# Altium schematic symbol library Amin-Library.SCHLIB: 505 symbols (part 4 of 4)
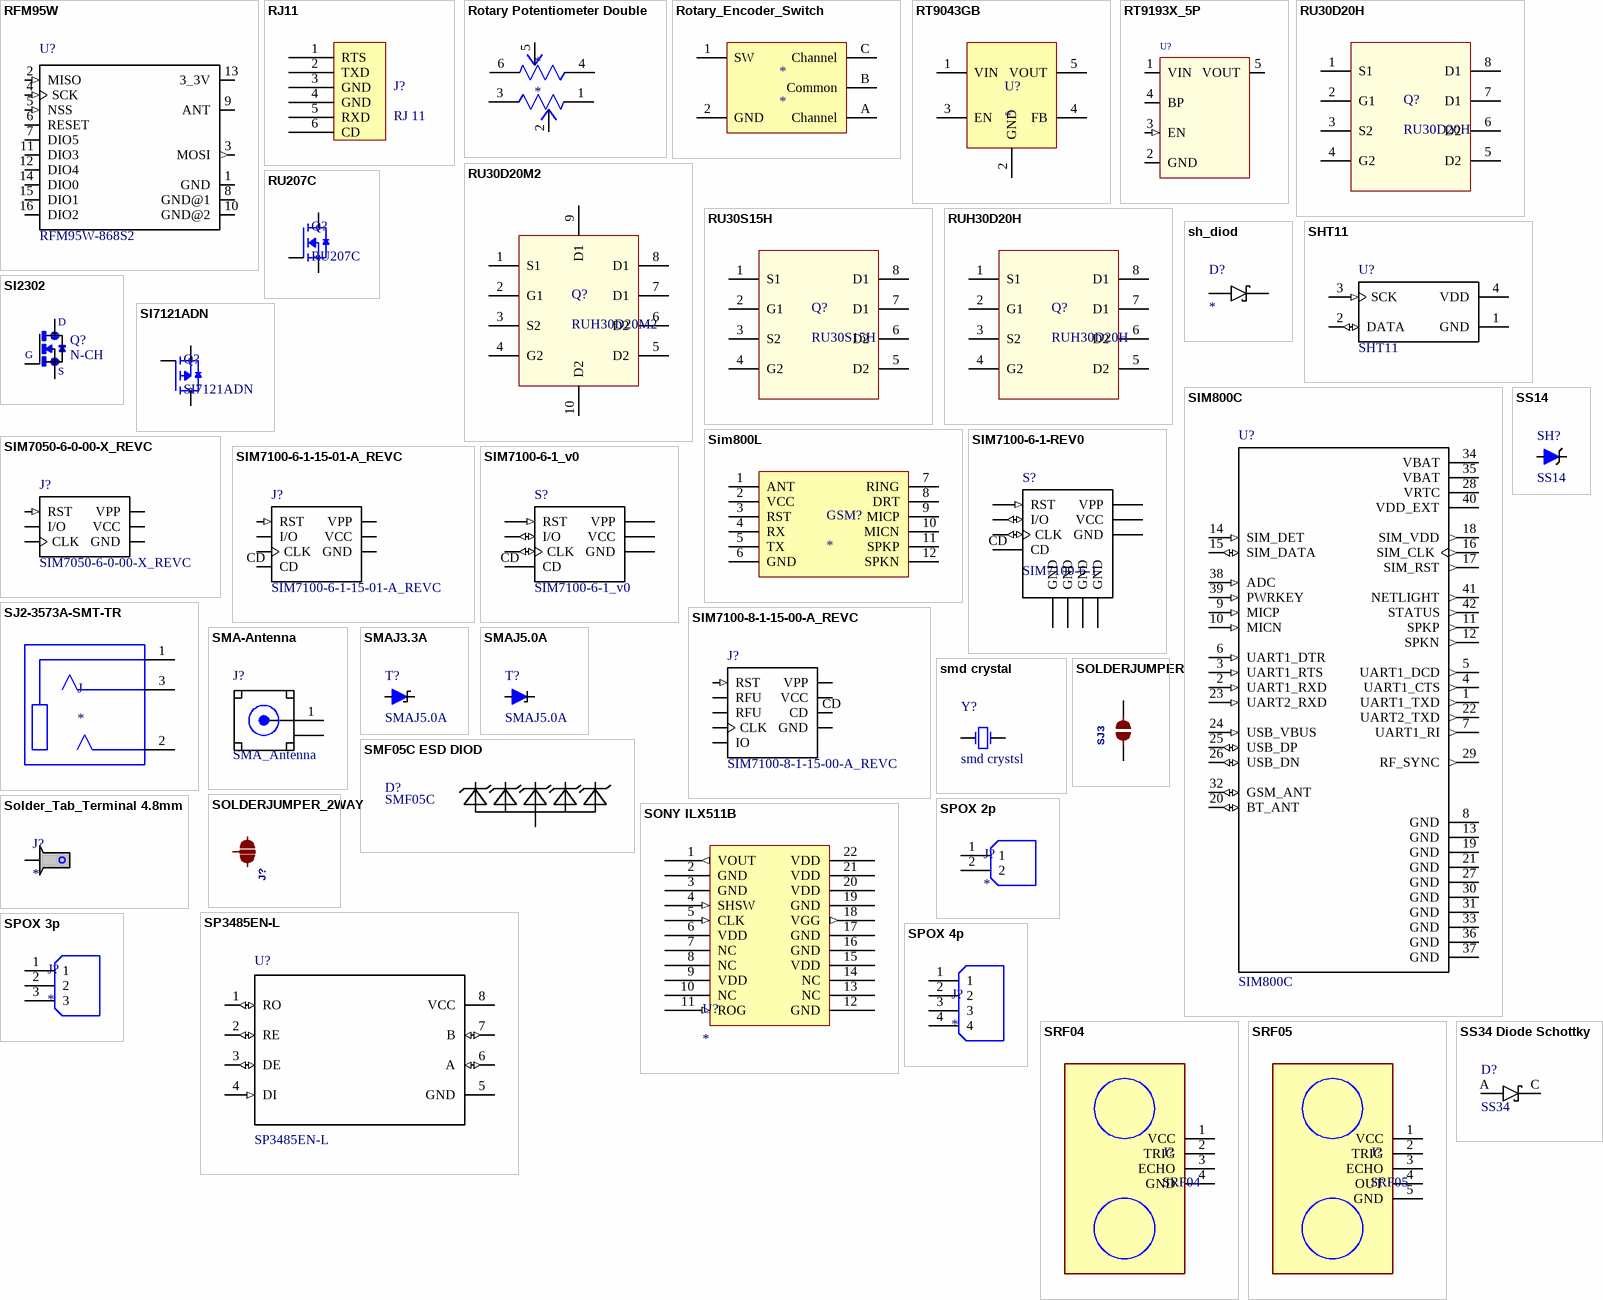
[diagram p21: symbols RFM95W to SS34 Diode Schottky]

## SIM800C
designator U?
Module: GSM/Bluetooth; GPRS; 2G; 1800MHz, 900MHz; 85.6kbps; SMD; MF: Simcom; SnapEDA_Link: https://www.snapeda.com/parts/SIM800C/Simcom/view-part/571323/?ref=snap; Availability: Unavailable; Price: None; MP: SIM800C; Package: None; Value: *
footprint SIM800C
pins: 1 UART1_TXD (out), 2 UART1_RXD (in), 3 UART1_RTS (in), 4 UART1_CTS (out), 5 UART1_DCD (out), 6 UART1_DTR (in), 7 UART1_RI (out), 8 GND (power), 9 MICP (in), 10 MICN (in), 11 SPKP (out), 12 SPKN (out), 13 GND (power), 14 SIM_DET (in), 15 SIM_DATA (io), 16 SIM_CLK (out), 17 SIM_RST (out), 18 SIM_VDD (out), 19 GND (power), 20 BT_ANT (io), 21 GND (power), 22 UART2_TXD (out), 23 UART2_RXD (in), 24 USB_VBUS (in), 25 USB_DP (io), 26 USB_DN (io), 27 GND (power), 28 VRTC (power), 29 RF_SYNC (out), 30 GND (power), 31 GND (power), 32 GSM_ANT (io), 33 GND (power), 34 VBAT (power), 35 VBAT (power), 36 GND (power), 37 GND (power), 38 ADC (in), 39 PWRKEY (in), 40 VDD_EXT (power), 41 NETLIGHT (out), 42 STATUS (out)

## Sim800L
designator GSM?
footprint Sim800L
pins: 1 ANT, 2 VCC, 3 RST, 4 RX, 5 TX, 6 GND, 7 RING, 8 DRT, 9 MICP, 10 MICN, 11 SPKP, 12 SPKN

## SIM7050-6-0-00-X_REVC
designator J?
6 Position Card Connector Micro SIM Surface Mount, Right Angle Gold; MF: Global Connector Technology; MP: SIM7050-6-0-00-A; Package: None; Price: None; Availability: Unavailable; SnapEDA_Link: https://www.snapeda.com/parts/SIM7050-6-0-00-A/Global%20Connector%20Technology/view-part/270345/?ref=snap; Value: *
footprint *GCT_SIM7050-6-0-00-X_REVC_SIM7050-6-0-00-X_REVC(Primary)
pins: C1 VCC (power), C2 RST (in), C3 CLK (io), C5 GND (power), C6 VPP (power), C7 I/O (io)

## SIM7100-6-1-15-01-A_REVC
designator J?
6 Position 2.54 mm Pitch Push-Push 1.5 mm Profile Micro SIM Card Connector, locating peg; MF: Global Connector Technology; Price: None; Package: Package Analog Devices; SnapEDA_Link: https://www.snapeda.com/parts/SIM7100-6-1-15-01-A/Global%20Connector%20Technology/view-part/4218389/?ref=snap; Availability: Unavailable; MP: SIM7100-6-1-15-01-A; Value: *
footprint *GCT_SIM7100-6-1-15-01-A_REVC_SIM7100-6-1-15-01-A_REVC(Primary)
pins: C1 VCC (power), C2 RST (in), C3 CLK (io), C5 GND (power), C6 VPP (power), C7 I/O (io), CD

## SIM7100-6-1-REV0
designator S?, comment SIM7100-6-1
6 Position 2.54 mm Pitch Push-Push 1.5 mm Profile Micro SIM Card Connector, locating peg; MF: Global Connector Technology; MP: SIM7100-6-1-15-01-A; Price: None; Package: Package Analog Devices; SnapEDA_Link: https://www.snapeda.com/parts/SIM7100-6-1-15-01-A/Global%20Connector%20Technology/view-part/4218389/?ref=snap; Availability: Unavailable; Value: *
footprint SIM7100-6-REV0
pins: 1 GND (power), 2 GND (power), 3 GND (power), 4 GND, C1 VCC (power), C2 RST (in), C3 CLK (io), C5 GND (power), C6 VPP (power), C7 I/O (io), CD

## SIM7100-6-1_v0
designator S?
6 Position 2.54 mm Pitch Push-Push 1.5 mm Profile Micro SIM Card Connector, locating peg; MF: Global Connector Technology; MP: SIM7100-6-1-15-01-A; Price: None; Package: Package Analog Devices; SnapEDA_Link: https://www.snapeda.com/parts/SIM7100-6-1-15-01-A/Global%20Connector%20Technology/view-part/4218389/?ref=snap; Availability: Unavailable; Value: *
footprint SIM7100-6-V0
pins: 1 VCC (power), 2 RST (in), 3 CLK (io), 5 GND (power), 6 VPP (power), 7 I/O (io), CD

## SIM7100-8-1-15-00-A_REVC
designator J?
9 _8 + 1_ Position Card Connector Micro SIM Surface Mount, Right Angle Gold; MF: Global Connector Technology; Package: None; Price: None; Availability: Unavailable; MP: SIM7100-8-1-15-00-A; SnapEDA_Link: https://www.snapeda.com/parts/SIM7100-8-1-15-00-A/Global%20Connector%20Technology/view-part/779291/?ref=snap; Value: *
footprint *GCT_SIM7100-8-1-15-00-A_REVC_SIM7100-8-1-15-00-A_REVC(Primary)
pins: C1 VCC (power), C2 RST (in), C3 CLK (io), C4 RFU (io), C5 GND (power), C6 VPP (power), C7 IO (io), C8 RFU (io), CD

## SJ2-3573A-SMT-TR
designator J
3.5 mm, Stereo, Right Angle, Surface Mount (SMT), Audio Jack Connector; MP: SJ2-3573A-SMT-TR; MF: CUI Devices; Price: None; Arrow_Electronics-Purchase-URL: https://snapeda.com/shop?store=Arrow+Electronics&id=911456; Value: *; Package: None; Mouser-Purchase-URL: https://snapeda.com/shop?store=Mouser&id=911456; SnapEDA_Link: https://www.snapeda.com/parts/SJ2-3573A-SMT-TR/CUI%20Devices/view-part/911456/?ref=snap; Availability: Warning; CUI_purchase_URL: https://www.cuidevices.com/product/interconnect/connectors/audio-connectors/jacks/sj2-357x-smt-series?utm_source=snapeda.com&utm_medium=referral&utm_campaign=snapedaBOM
footprint CUI_SJ2-3573A-SMT-TR
pins: 1 SLEEVE, 2 TIP, 3 RING1

## SMA-Antenna
designator J?, comment SMA_Antenna
SMA Connector Jack, Female Socket 50Ohm Through Hole, Right Angle Solder; MP: SMA-J-P-H-RA-TH1; MF: Samtec; Package: None; Price: None; Availability: Unavailable; SnapEDA_Link: https://www.snapeda.com/parts/SMA-J-P-H-RA-TH1/Samtec%20Inc./view-part/134498/?ref=snap; Value: *
footprint SMA_Antenna
pins: 1 SIGNAL, 2 GND (power), 3 GND (power), 4 GND (power), 5 GND (power)

## SMAJ3.3A
designator T?, comment SMAJ5.0A
one side TVS Diode; MP: EDZV12B; MF: ROHM Semiconductor; Price: None; Package: None; SnapEDA_Link: https://www.snapeda.com/parts/EDZV12B/EMI/view-part/4479349/?ref=snap; Availability: Unavailable; Value: *
footprint SMAJ3.3A
pins: A, C

## SMAJ5.0A
designator T?
one side TVS Diode; MP: EDZV12B; MF: ROHM Semiconductor; Price: None; Package: None; SnapEDA_Link: https://www.snapeda.com/parts/EDZV12B/EMI/view-part/4479349/?ref=snap; Availability: Unavailable; Value: *
footprint SMAJ5.0A
pins: A, C

## smd crystal
designator Y?, comment smd crystsl
MF: ECS International; MP: ECS-320-18-5PXEN-TR; Availability: Unavailable; Price: None; Package: None; SnapEDA_Link: https://www.snapeda.com/parts/ECS-320-18-5PXEN-TR/ECS%20International/view-part/?ref=snap; Value: *
footprint SMD_Crystal
pins: 1 OSC1, 2 OSC2

## SMF05C ESD DIOD
designator D?, comment SMF05C
12.5V Clamp 8A _8/20Âµs_ Ipp Tvs Diode Surface Mount SC-88/SC70-6/SOT-363; MF: ON Semiconductor; Package: SOT-363 ON Semiconductor; Price: None; Availability: Unavailable; MP: SMF05C; SnapEDA_Link: https://www.snapeda.com/parts/SMF05C/ON%20Semiconductor/view-part/2782704/?ref=snap; Value: *
footprint SMF05
pins: 1 C1, 2 A, 3 C2, 4 C3, 5 C4, 6 C5

## Solder_Tab_Terminal 4.8mm
designator J?
Solder_Tab_Terminal 4.8mm; MP: 22035145; Availability: Unavailable; Value: *; Price: None; Package: None
footprint Solder Tab Terminal 4.8mm*0.5mm (2Pin)
pins: 1

## SOLDERJUMPER
designator SJ3  (value not drawn)
SMD Solder JUMPERSolder the two pads together to create a connection, or remove the solder to break it.REFLOW - Use this footprint for solder paste and reflow ovens.WAVE - Use this footprint for hand-soldering (larger pads). CLOSED - Has a trace between the two pads to ensure it is closed by default.  The trace needs to be cut to disable the jumper, and can be closed again by creating a solder bridge between the two pads.; GateName_1: 1; BOM: EXCLUDE; SymbolName_1: SOLDERJUMPER; LibraryName: microbuilder; DeviceSetName: SOLDERJUMPER
footprint SOLDERJUMPER_ARROW_NOPASTE
pins: 1, 2

## SOLDERJUMPER_2WAY
designator J?
2-Way Solder Jumper; GateName_1: G$1; SymbolName_1: SOLDERJUMPER_2WAY; LibraryName: microbuilder; DeviceSetName: SOLDERJUMPER_2WAY
footprint SOLDERJUMPER_2WAY_OPEN_NOPASTE
pins: 1, 2, 3

## SONY ILX511B
designator U?
2048-pixel CCD Linear Sensor
footprint SONY ILX511B (2048-pixel CCD Linear Sensor)
pins: 1 VOUT (out), 2 GND (power), 3 GND, 4 SHSW (in), 5 CLK (in), 6 VDD, 7 NC, 8 NC, 9 VDD, 10 NC, 11 ROG (in), 12 GND (power), 13 NC, 14 NC, 15 VDD, 16 GND, 17 GND, 18 VGG (out), 19 GND (power), 20 VDD, 21 VDD, 22 VDD (power)

## SP3485EN-L
designator U?
SP3485 Series 10 Mbps 3.3 V Low Power Half Duplex RS-485 Transceiver - SOIC-8N; MF: Exar Corporation; SnapEDA_Link: https://www.snapeda.com/parts/SP3485EN-L/Exar%20Corporation/view-part/?ref=snap; MP: SP3485EN-L; Price: 1.72 USD; Availability: Warning; Package: SOIC-8 Exar; Value: *
footprint SP3485
pins: 1 RO (io), 2 RE (io), 3 DE (io), 4 DI (in), 5 GND (power), 6 A (io), 7 B (io), 8 VCC (power)

## SPOX 2p
designator J?
2.50mm Pitch, Mini-SPOX PCB Header, Single Row, Vertical, Through Hole, Tin Plating,2p Circuits, Bag, 3.50mm PC Tail Length; MP: 22035145; Availability: Unavailable; Value: *; Price: None; Package: None
footprint SPOX 2P
pins: 1, 2

## SPOX 3p
designator J?
2.50mm Pitch, Mini-SPOX PCB Header, Single Row, Vertical, Through Hole, Tin Plating,3 Circuits, Bag, 3.50mm PC Tail Length; MP: 22035145; Availability: Unavailable; Value: *; Price: None; Package: None
footprint SPOX 3P
pins: 1, 2, 3

## SPOX 4p
designator J?
2.50mm Pitch, Mini-SPOX PCB Header, Single Row, Vertical, Through Hole, Tin Plating,4 Circuits, Bag, 3.50mm PC Tail Length; MP: 22035145; Availability: Unavailable; Value: *; Price: None; Package: None
footprint SPOX 4P
pins: 1, 2, 3, 4

## SRF04
designator J?
Ultrasonic Sensor SRF04; MP: B4B-XH-A_LF__SN_; MF: JST Sales; Price: None; Package: None; Value: *; Availability: Unavailable; SnapEDA_Link: https://www.snapeda.com/parts/B4B-XH-A%28LF%29%28SN%29/JST%20Sales%20America%20Inc./view-part/447494/?ref=snap
footprint SRF04
pins: 1 VCC, 2 TRIG, 3 ECHO, 4 GND

## SRF05
designator J?
Ultrasonic Sensor SRF05; MP: B4B-XH-A_LF__SN_; MF: JST Sales; Price: None; Package: None; Value: *; Availability: Unavailable; SnapEDA_Link: https://www.snapeda.com/parts/B4B-XH-A%28LF%29%28SN%29/JST%20Sales%20America%20Inc./view-part/447494/?ref=snap
footprint SRF05
pins: 1 VCC, 2 TRIG, 3 ECHO, 4 OUT, 5 GND

## SS14
designator SH?
SHotkey Diode; MP: EDZV12B; MF: ROHM Semiconductor; Price: None; Package: None; SnapEDA_Link: https://www.snapeda.com/parts/EDZV12B/EMI/view-part/4479349/?ref=snap; Availability: Unavailable; Value: *
footprint SS14
pins: A, C

## SS34 Diode Schottky
designator D?, comment SS34
Diode Schottky 40V 3A Surface Mount SMC _DO-214AB_; MF: ON Semiconductor; Package: None; Price: None; Availability: Unavailable; MP: SS34; SnapEDA_Link: https://www.snapeda.com/parts/SS34/ON%20Semiconductor/view-part/4479478/?ref=snap; Value: *
footprint *DIOM7959X265N_SS34(Primary)
pins: A, C K

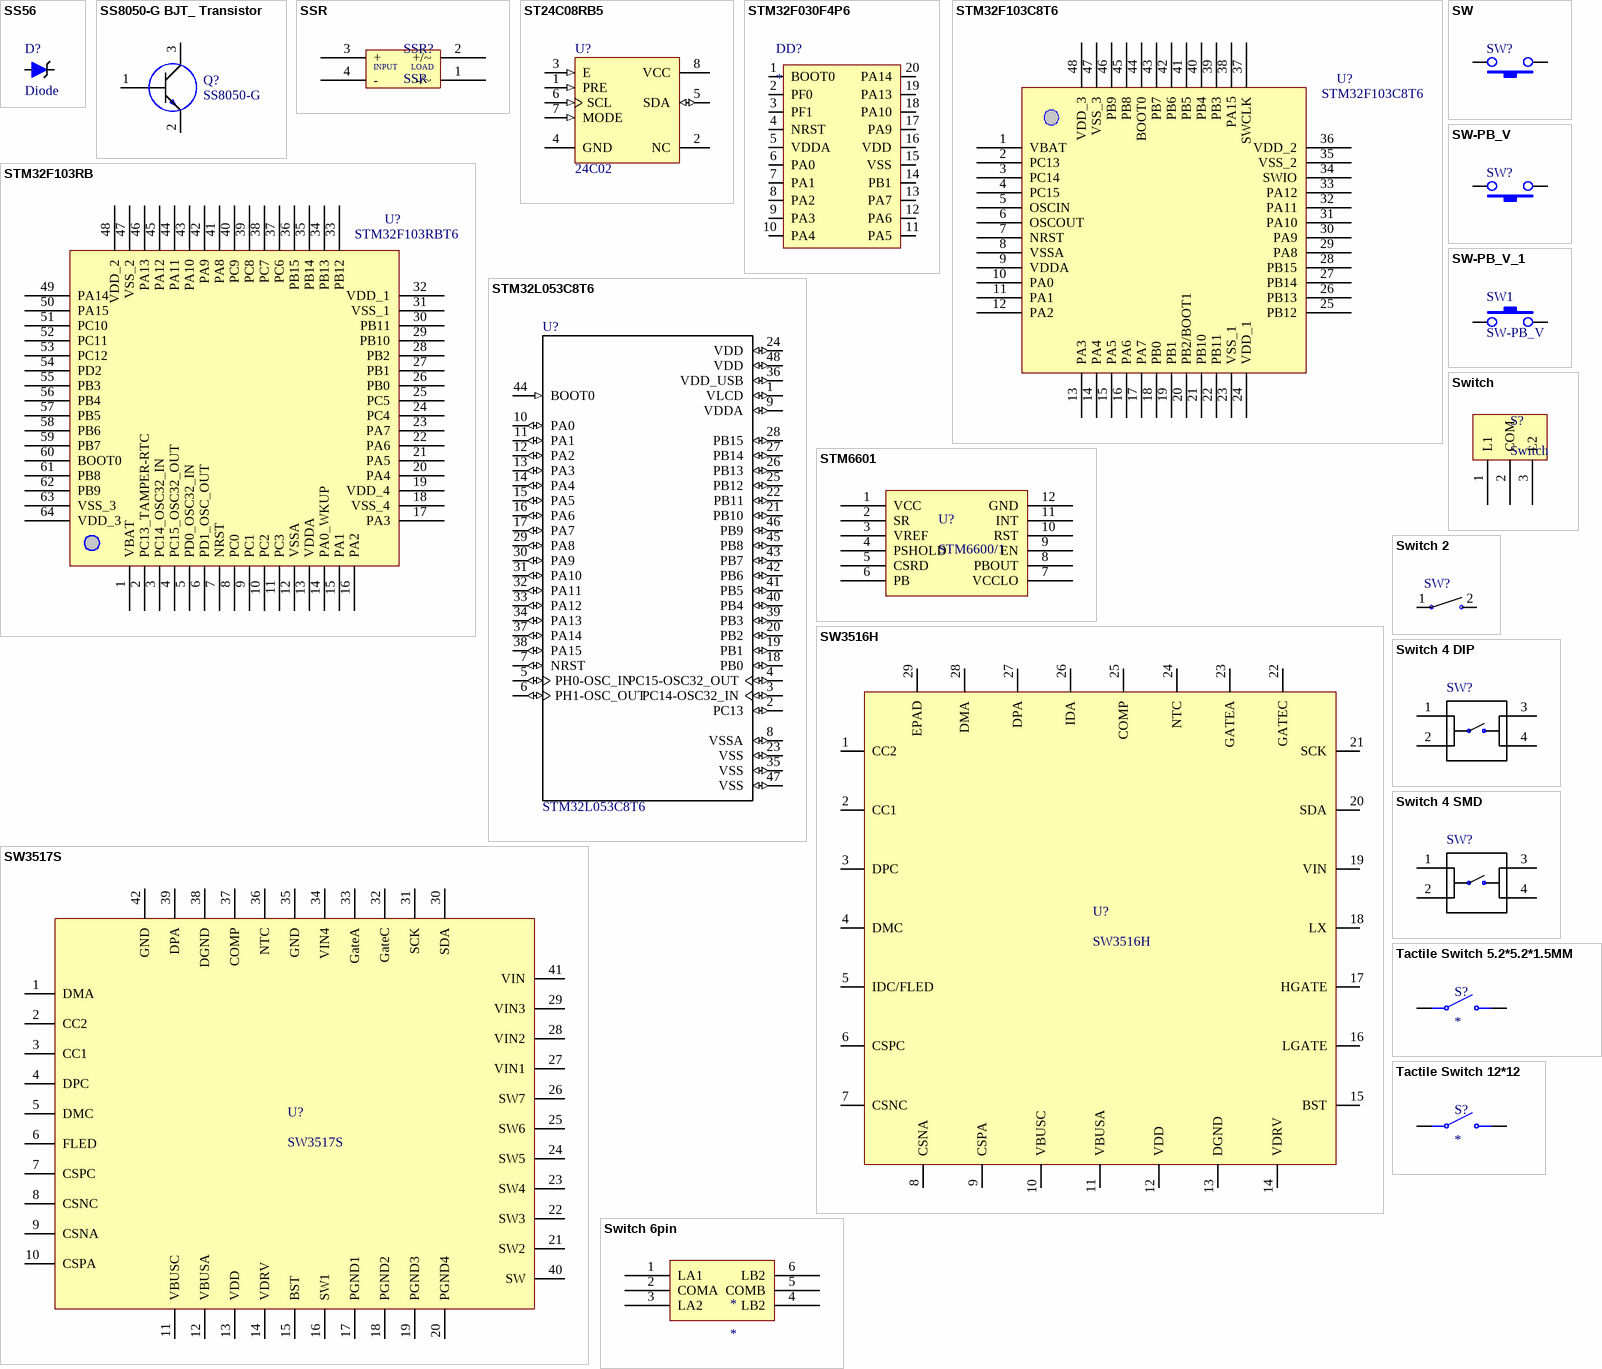
[diagram p15: symbols SS56 to Tactile Switch 12*12]

## SS56
designator D?, comment Diode
SMB Package; MP: EDZV12B; MF: ROHM Semiconductor; Price: None; Package: None; SnapEDA_Link: https://www.snapeda.com/parts/EDZV12B/EMI/view-part/4479349/?ref=snap; Availability: Unavailable; Value: *
footprint SS56 (SMB)
pins: 1 A, 2 C

## SS8050-G BJT_ Transistor
designator Q?, comment SS8050-G
Bipolar _BJT_ Transistor NPN 25V 1.5A 100MHz 300mW Surface Mount SOT-23; MF: Comchip Technology; SnapEDA_Link: https://www.snapeda.com/parts/SS8050-G/Comchip%20Technology/view-part/809142/?ref=snap; Price: None; MP: SS8050-G; Package: TO-236 Comchip; Availability: Unavailable; Value: *
footprint BJT SS805
pins: 1 B (io), 2 E (io), 3 C (io)

## SSR
designator SSR?
HHG1D-1
footprint SSR (HHG1D-1)
pins: 1 -/~, 2 +/~, 3 +, 4 -
text: INPUT; LOAD

## ST24C08RB5
designator U?, comment 24C02
Serial 8K (1K x 8) EEPROM; Published: 24-Aug-2001; LatestRevisionDate: 06-Jun-2005; LatestRevisionNote: Stylized 3D Model Added.; DatasheetVersion: Jul-1996; PackageVersion: Jun-1998; PackageReference: PSDIP8A; Publisher: Altium Limited; PackageDescription: DIP; 8 Leads; Row Spacing 7.62 mm; Pitch 2.54 mm; ComponentLink1Description: Manufacturer Link; ComponentLink1URL: http://www.st.com/
footprint PSDIP8A (DIP; 8 Leads; Row Spacing 7.62 mm; Pitch 2.54 mm)
3D model PSDIP8A (DIP; 8 Leads; Row Spacing 7.62 mm; Pitch 2.54 mm)
pins: 1 PRE (in), 2 NC, 3 E (in), 4 GND (power), 5 SDA (io), 6 SCL (in), 7 MODE (in), 8 VCC (power)

## STM32F030F4P6
designator DD?
footprint STM32F030F4P6
pins: 1 BOOT0, 2 PF0, 3 PF1, 4 NRST, 5 VDDA, 6 PA0, 7 PA1, 8 PA2, 9 PA3, 10 PA4, 11 PA5, 12 PA6, 13 PA7, 14 PB1, 15 VSS, 16 VDD, 17 PA9, 18 PA10, 19 PA13, 20 PA14

## STM32F103C8T6
designator U?
ARM Microcontroller 70Hz max
footprint STM32F103C8
pins: 1 VBAT, 2 PC13, 3 PC14, 4 PC15, 5 OSCIN, 6 OSCOUT, 7 NRST, 8 VSSA, 9 VDDA, 10 PA0, 11 PA1, 12 PA2, 13 PA3, 14 PA4, 15 PA5, 16 PA6, 17 PA7, 18 PB0, 19 PB1, 20 PB2/BOOT1, 21 PB10, 22 PB11, 23 VSS_1, 24 VDD_1, 25 PB12, 26 PB13, 27 PB14, 28 PB15, 29 PA8, 30 PA9, 31 PA10, 32 PA11, 33 PA12, 34 SWIO, 35 VSS_2, 36 VDD_2, 37 SWCLK, 38 PA15, 39 PB3, 40 PB4, 41 PB5, 42 PB6, 43 PB7, 44 BOOT0, 45 PB8, 46 PB9, 47 VSS_3, 48 VDD_3

## STM32F103RB
designator U?, comment STM32F103RBT6
footprint LQFP64
pins: 1 VBAT, 2 PC13_TAMPER-RTC, 3 PC14_OSC32_IN, 4 PC15_OSC32_OUT, 5 PD0_OSC32_IN, 6 PD1_OSC_OUT, 7 NRST, 8 PC0, 9 PC1, 10 PC2, 11 PC3, 12 VSSA, 13 VDDA, 14 PA0_WKUP, 15 PA1, 16 PA2, 17 PA3, 18 VSS_4, 19 VDD_4, 20 PA4, 21 PA5, 22 PA6, 23 PA7, 24 PC4, 25 PC5, 26 PB0, 27 PB1, 28 PB2, 29 PB10, 30 PB11, 31 VSS_1, 32 VDD_1, 33 PB12, 34 PB13, 35 PB14, 36 PB15, 37 PC6, 38 PC7, 39 PC8, 40 PC9, 41 PA8, 42 PA9, 43 PA10, 44 PA11, 45 PA12, 46 PA13, 47 VSS_2, 48 VDD_2, 49 PA14, 50 PA15, 51 PC10, 52 PC11, 53 PC12, 54 PD2, 55 PB3, 56 PB4, 57 PB5, 58 PB6, 59 PB7, 60 BOOT0, 61 PB8, 62 PB9, 63 VSS_3, 64 VDD_3

## STM32L053C8T6
designator U?
Ultra-low-power ARM Cortex-M0+ MCU with 64 Kbytes Flash, 32 MHz CPU, USB, LCD; MF: STMicroelectronics; Package: LQFP-48 STMicroelectronics; Digi-Key_Purchase_URL: https://www.digikey.com/product-detail/en/stmicroelectronics/STM32L053C8T6/497-14906-ND/4935255?utm_source=snapeda&utm_medium=aggregator&utm_campaign=symbol; Digi-Key_Part_Number: 497-14906-ND; SnapEDA_Link: https://www.snapeda.com/parts/STM32L053C8T6/STMicroelectronics/view-part/?ref=snap; MP: STM32L053C8T6; Value: *
footprint STM32L053C8T6
pins: 1 VLCD (io), 2 PC13 (io), 3 PC14-OSC32_IN (io), 4 PC15-OSC32_OUT (io), 5 PH0-OSC_IN (io), 6 PH1-OSC_OUT (io), 7 NRST (io), 8 VSSA (io), 9 VDDA (io), 10 PA0 (io), 11 PA1 (io), 12 PA2 (io), 13 PA3 (io), 14 PA4 (io), 15 PA5 (io), 16 PA6 (io), 17 PA7 (io), 18 PB0 (io), 19 PB1 (io), 20 PB2 (io), 21 PB10 (io), 22 PB11 (io), 23 VSS (io), 24 VDD (io), 25 PB12 (io), 26 PB13 (io), 27 PB14 (io), 28 PB15 (io), 29 PA8 (io), 30 PA9 (io), 31 PA10 (io), 32 PA11 (io), 33 PA12 (io), 34 PA13 (io), 35 VSS (io), 36 VDD_USB (io), 37 PA14 (io), 38 PA15 (io), 39 PB3 (io), 40 PB4 (io), 41 PB5 (io), 42 PB6 (io), 43 PB7 (io), 44 BOOT0 (in), 45 PB8 (io), 46 PB9 (io), 47 VSS (io), 48 VDD (io)

## STM6601
designator U?, comment STM6600/1
Smart push-button on/off controller with Smart Reset™ and  power-on lockout
footprint TDFN12
pins: 1 VCC, 2 SR, 3 VREF, 4 PSHOLD, 5 CSRD, 6 PB, 7 VCCLO, 8 PBOUT, 9 EN, 10 RST, 11 INT, 12 GND

## SW
designator SW?
SWITCH - 8mm
footprint SW-PB - 8mm
pins: 1, 2

## SW3516H
designator U?
footprint SW3516H-QFN28-4*4mm
pins: 1 CC2, 2 CC1, 3 DPC, 4 DMC, 5 IDC/FLED, 6 CSPC, 7 CSNC, 8 CSNA, 9 CSPA, 10 VBUSC, 11 VBUSA, 12 VDD, 13 DGND, 14 VDRV, 15 BST, 16 LGATE, 17 HGATE, 18 LX, 19 VIN, 20 SDA, 21 SCK, 22 GATEC, 23 GATEA, 24 NTC, 25 COMP, 26 IDA, 27 DPA, 28 DMA, 29 EPAD

## SW3517S
designator U?
footprint SW3517S-QFN40-50*50
pins: 1 DMA, 2 CC2, 3 CC1, 4 DPC, 5 DMC, 6 FLED, 7 CSPC, 8 CSNC, 9 CSNA, 10 CSPA, 11 VBUSC, 12 VBUSA, 13 VDD, 14 VDRV, 15 BST, 16 SW1, 17 PGND1, 18 PGND2, 19 PGND3, 20 PGND4, 21 SW2, 22 SW3, 23 SW4, 24 SW5, 25 SW6, 26 SW7, 27 VIN1, 28 VIN2, 29 VIN3, 30 SDA, 31 SCK, 32 GateC, 33 GateA, 34 VIN4, 35 GND, 36 NTC, 37 COMP, 38 DGND, 39 DPA, 40 SW, 41 VIN, 42 GND

## SW-PB_V
designator SW?
SWITCH
footprint Switch 2
pins: 1, 2

## SW-PB_V_1
designator SW1, comment SW-PB_V
SWITCH
footprint Switch 2
pins: 1, 2

## Switch
designator S?
footprint SW-PCB (1P2T 90 Angle Horizontal Slide)
pins: 1 L1, 2 COM, 3 L2

## Switch 2
designator SW?, comment 1437566-3  (value not drawn)
Tactile Switch SPST-NO Top Actuated Surface Mount; Contact_Current_Rating: 50 mA; MF: TE Connectivity; Configuration_Pole-Throw: Single Pole - Single Throw; TE_purchase_URL: https://www.te.com/usa-en/product-1437566-3.html?te_bu=Cor&te_type=disp&te_campaign=seda_glo_cor-seda-global-disp-prtnr-fy19-seda-model-bom-cta_sma-317_1&elqCampaignId=32493; SnapEDA_Link: https://www.snapeda.com/parts/1437566-3/TE%20Connectivity%20ALCOSWITCH%20Switches/view-part/348131/?ref=snap; Availability: Unavailable; MP: 1437566-3; Price: None; Package: None; Value: *
footprint Switch 2
pins: 1, 2

## Switch 4 DIP
designator SW?, comment 1825910-6  (value not drawn)
Switch Push Button OFF _ON_ SPST Round Button 0.05A 24VDC Momentary Contact PC Pins Thru-Hole; Contact_Current_Rating: 50 mA; MF: TE Connectivity; Configuration_Pole-Throw: Single Pole - Single Throw; TE_purchase_URL: https://www.te.com/usa-en/product-1825910-6.html?te_bu=Cor&te_type=disp&te_campaign=seda_glo_cor-seda-global-disp-prtnr-fy19-seda-model-bom-cta_sma-317_1&elqCampaignId=32493; SnapEDA_Link: https://www.snapeda.com/parts/1825910-6/TE%20Connectivity%20ALCOSWITCH%20Switches/view-part/424522/?ref=snap; Availability: Unavailable; EU_RoHS_Compliance: Compliant; MP: 1825910-6; Price: None; Package: None; Value: *
footprint Switch 4 dip
pins: 1, 2, 3, 4

## Switch 4 SMD
designator SW?, comment 1825910-6  (value not drawn)
Switch Push Button OFF _ON_ SPST Round Button 0.05A 24VDC Momentary Contact PC Pins Thru-Hole; Contact_Current_Rating: 50 mA; MF: TE Connectivity; Configuration_Pole-Throw: Single Pole - Single Throw; TE_purchase_URL: https://www.te.com/usa-en/product-1825910-6.html?te_bu=Cor&te_type=disp&te_campaign=seda_glo_cor-seda-global-disp-prtnr-fy19-seda-model-bom-cta_sma-317_1&elqCampaignId=32493; SnapEDA_Link: https://www.snapeda.com/parts/1825910-6/TE%20Connectivity%20ALCOSWITCH%20Switches/view-part/424522/?ref=snap; Availability: Unavailable; EU_RoHS_Compliance: Compliant; MP: 1825910-6; Price: None; Package: None; Value: *
footprint Switch 4 smd
pins: 1, 2, 3, 4

## Switch 6pin
designator *
footprint SW-PCB 6PIN (2P2T 6PIN)
pins: 1 LA1, 2 COMA, 3 LA2, 4 LB2, 5 COMB, 6 LB2

## Tactile Switch 5.2*5.2*1.5MM
designator S?
Tactile Switch SPST-NO Top Actuated Surface Mount; MP: 430172043816; MF: Wurth Electronics; Package: None; Availability: Unavailable; SnapEDA_Link: https://www.snapeda.com/parts/430172043816/Wurth%20Electronics%20Inc./view-part/3622048/?ref=snap; Price: None; Value: *
footprint Tact Switch 5.2*5.2*1.5 (5.2*5.2*0.9mm)
pins: 1 1_2, 2 1_2, 3 3_4, 4 3_4

## Tactile Switch 12*12
designator S?
Tactile Switch SPST-NO Top Actuated Surface Mount; MP: 430172043816; MF: Wurth Electronics; Package: None; Availability: Unavailable; SnapEDA_Link: https://www.snapeda.com/parts/430172043816/Wurth%20Electronics%20Inc./view-part/3622048/?ref=snap; Price: None; Value: *
footprint Tactile Switch 12*12
pins: 1 1_2, 2 1_2, 3 3_4, 4 3_4

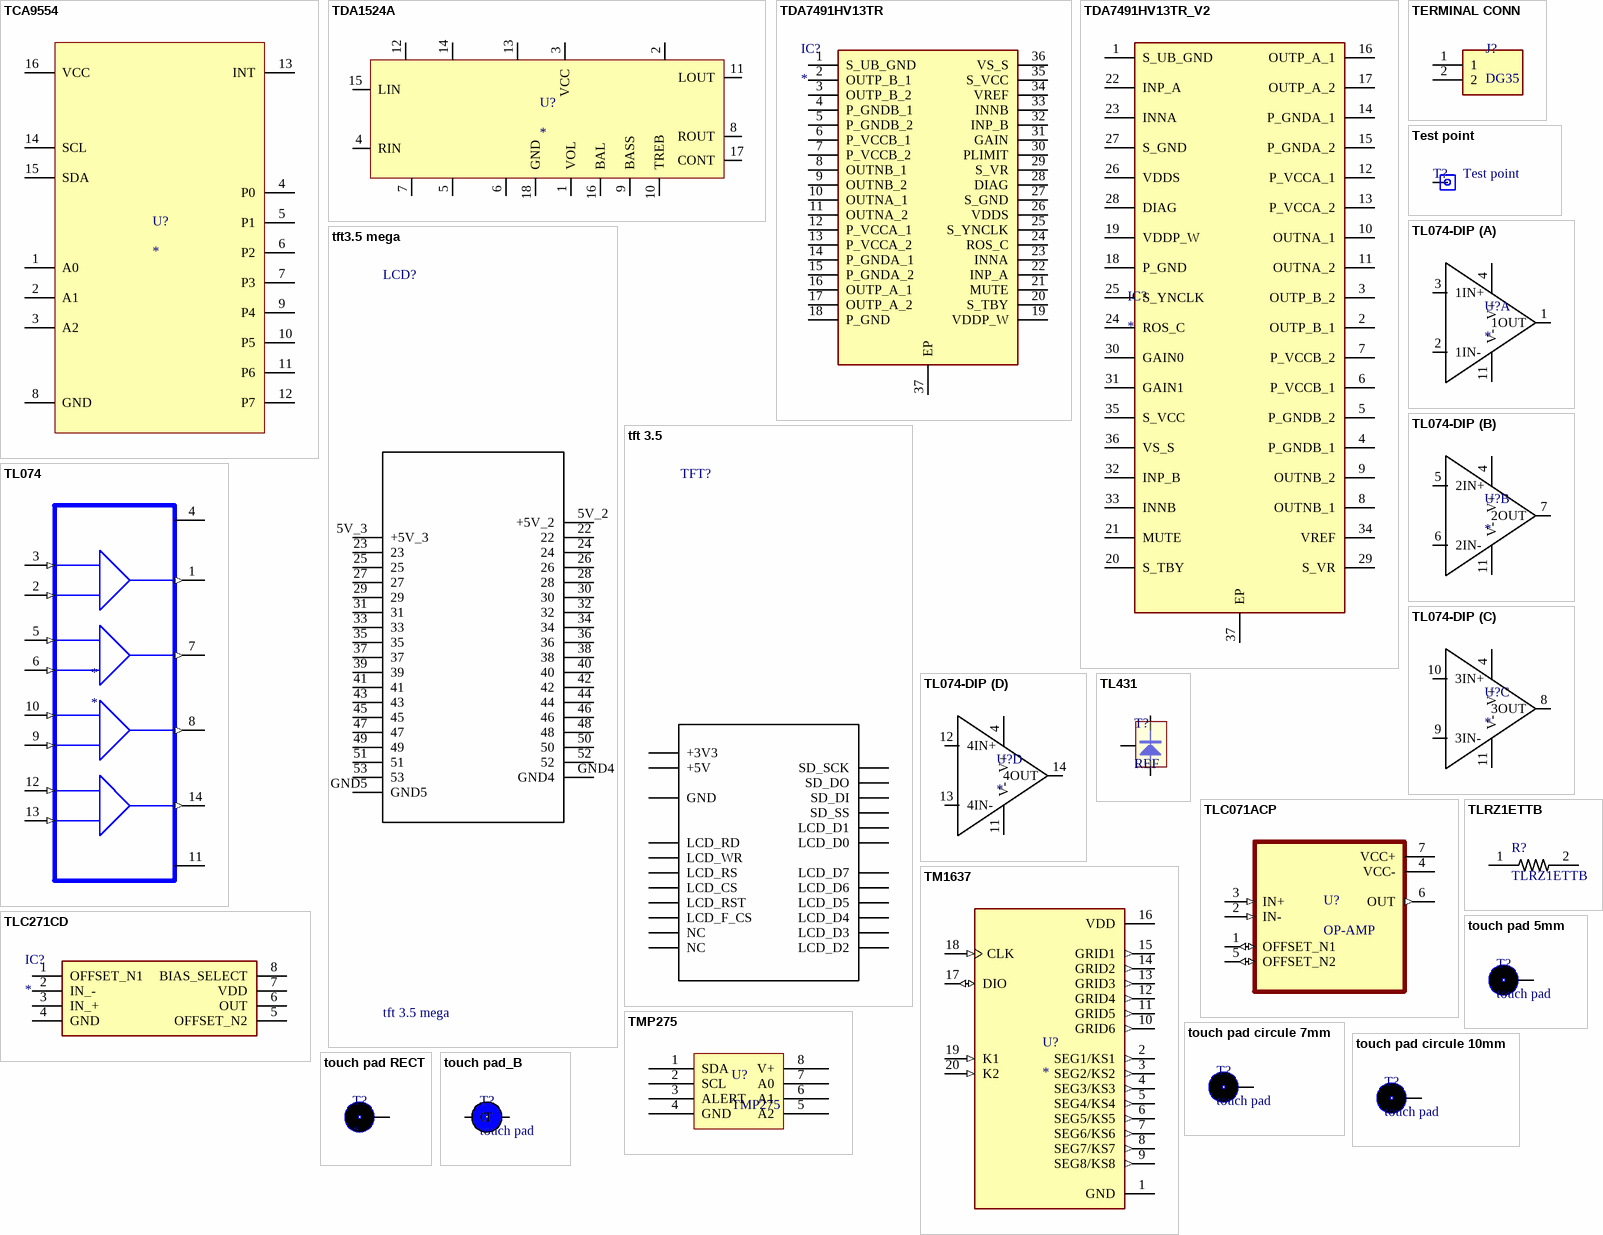
[diagram p16: symbols TCA9554 to touch pad_B]

## TCA9554
designator U?
TCA9554 Low Voltage 8-Bit I2C and SMBus Low-Power I/O Expander With Interrupt Output and Configuration Registers
footprint SOIC127P1030X265-16N
pins: 1 A0, 2 A1, 3 A2, 4 P0, 5 P1, 6 P2, 7 P3, 8 GND, 9 P4, 10 P5, 11 P6, 12 P7, 13 INT, 14 SCL, 15 SDA, 16 VCC

## TDA1524A
designator U?
Audio Audio Tone Processor 2 Channel 18-DIP; MF: NXP USA; MP: TDA1524A; Value: *; Package: DIP-18 NXP USA; Availability: Bad; SnapEDA_Link: https://www.snapeda.com/parts/TDA1524A/NXP%20USA%20Inc./view-part/424219/?ref=snap; Price: None
footprint DIIP18
pins: 1 VOL, 2, 3 VCC, 4 RIN, 5, 6, 7, 8 ROUT, 9 BASS, 10 TREB, 11 LOUT, 12, 13, 14, 15 LIN, 16 BAL, 17 CONT, 18 GND

## TDA7491HV13TR
designator IC?
20 W + 20 W dual BTL class-D audio amplifier  SSO-36 EPD; Manufacturer_Name: STMicroelectronics; Manufacturer_Part_Number: TDA7491HV13TR; Datasheet Link: http://www.st.com/web/en/resource/technical/document/datasheet/CD00178777.pdf; Height: 2.47mm; Arrow Part Number: TDA7491HV13TR; Arrow Price/Stock: https://www.arrow.com/en/products/tda7491hv13tr/stmicroelectronics; Mouser Part Number: 511-TDA7491HV13TR; Mouser Price/Stock: https://www.mouser.com/Search/Refine.aspx?Keyword=511-TDA7491HV13TR
footprint TDA7491
pins: 1 S_UB_GND, 2 OUTP_B_1, 3 OUTP_B_2, 4 P_GNDB_1, 5 P_GNDB_2, 6 P_VCCB_1, 7 P_VCCB_2, 8 OUTNB_1, 9 OUTNB_2, 10 OUTNA_1, 11 OUTNA_2, 12 P_VCCA_1, 13 P_VCCA_2, 14 P_GNDA_1, 15 P_GNDA_2, 16 OUTP_A_1, 17 OUTP_A_2, 18 P_GND, 19 VDDP_W, 20 S_TBY, 21 MUTE, 22 INP_A, 23 INNA, 24 ROS_C, 25 S_YNCLK, 26 VDDS, 27 S_GND, 28 DIAG, 29 S_VR, 30 PLIMIT, 31 GAIN, 32 INP_B, 33 INNB, 34 VREF, 35 S_VCC, 36 VS_S, 37 EP

## TDA7491HV13TR_V2
designator IC?
20 W + 20 W dual BTL class-D audio amplifier  SSO-36 EPD; Manufacturer_Name: STMicroelectronics; Manufacturer_Part_Number: TDA7491HV13TR; Datasheet Link: http://www.st.com/web/en/resource/technical/document/datasheet/CD00178777.pdf; Height: 2.47mm; Arrow Part Number: TDA7491HV13TR; Arrow Price/Stock: https://www.arrow.com/en/products/tda7491hv13tr/stmicroelectronics; Mouser Part Number: 511-TDA7491HV13TR; Mouser Price/Stock: https://www.mouser.com/Search/Refine.aspx?Keyword=511-TDA7491HV13TR
footprint TDA7491
pins: 1 S_UB_GND, 2 OUTP_B_1, 3 OUTP_B_2, 4 P_GNDB_1, 5 P_GNDB_2, 6 P_VCCB_1, 7 P_VCCB_2, 8 OUTNB_1, 9 OUTNB_2, 10 OUTNA_1, 11 OUTNA_2, 12 P_VCCA_1, 13 P_VCCA_2, 14 P_GNDA_1, 15 P_GNDA_2, 16 OUTP_A_1, 17 OUTP_A_2, 18 P_GND, 19 VDDP_W, 20 S_TBY, 21 MUTE, 22 INP_A, 23 INNA, 24 ROS_C, 25 S_YNCLK, 26 VDDS, 27 S_GND, 28 DIAG, 29 S_VR, 30 GAIN0, 31 GAIN1, 32 INP_B, 33 INNB, 34 VREF, 35 S_VCC, 36 VS_S, 37 EP

## TERMINAL CONN
designator J?, comment DG35
Conn; Term Strip; Barrier; 2Pole; 8.26mmPitch; DG35; MF: {'manufacturer': u'TE Connectivity'}; MP: 2-1437667-4; Value: *; Availability: Unavailable; Price: None; Package: None
footprint DG35_8.25mm
pins: 1, 2

## Test point
designator T?
Published: 24-Mar-1999; LatestRevisionDate: 17-Jul-2002; LatestRevisionNote: Re-released for DXP Platform.; PackageReference: PIN1; Publisher: Altium Limited
footprint Test Point-1
pins: 1 A

## tft3.5 mega
designator LCD?, comment tft 3.5 mega
MP: ARDUINO MEGA2560 REV3 - RETAIL; MF: Arduino; Availability: Unavailable; SnapEDA_Link: https://www.snapeda.com/parts/ARDUINO%20MEGA2560%20REV3%20-%20RETAIL/Arduino/view-part/1128250/?ref=snap; Price: None; Package: None; Value: *
footprint tft 3.5 mega
pins: 5V_2 +5V_2, 5V_3 +5V_3, 22, 23, 24, 25, 26, 27, 28, 29, 30, 31, 32, 33, 34, 35, 36, 37, 38, 39, 40, 41, 42, 43, 44, 45, 46, 47, 48, 49, 50, 51, 52, 53, GND4, GND5

## tft 3.5
designator TFT?, comment TFT  (value not drawn)
tft 3.5 inch module; MP: ARDUINO MEGA2560 REV3 - RETAIL; MF: Arduino; Availability: Unavailable; SnapEDA_Link: https://www.snapeda.com/parts/ARDUINO%20MEGA2560%20REV3%20-%20RETAIL/Arduino/view-part/1128250/?ref=snap; Price: None; Package: None; Value: *
footprint tft3.5
pins: 3V3 +3V3, 5V +5V, GND, LCD_CS, LCD_D0, LCD_D1, LCD_D2, LCD_D3, LCD_D4, LCD_D5, LCD_D6, LCD_D7, LCD_F_CS, LCD_RD, LCD_RS, LCD_RST, LCD_WR, NC, NC, SD_DI, SD_DO, SD_SCK, SD_SS

## TL074
designator *
footprint DIP-14
pins: 1 1OUT (out), 2 1IN- (in), 3 1IN+ (in), 4 VCC+ (power), 5 2IN+ (in), 6 2IN- (in), 7 2OUT (out), 8 3OUT (out), 9 3IN- (in), 10 3IN+ (in), 11 VCC- (power), 12 4IN+ (in), 13 4IN- (in), 14 4OUT (out)

## TL074-DIP
designator U?
footprint TL074 (DIP; 14 Leads; Row Spacing 7.62 mm; Pitch 2.54 mm)
part A pins: 1 1OUT, 2 1IN-, 3 1IN+, 4 V+, 11 V-
part B pins: 4 V+, 5 2IN+, 6 2IN-, 7 2OUT, 11 V-
part C pins: 4 V+, 8 3OUT, 9 3IN-, 10 3IN+, 11 V-
part D pins: 4 V+, 11 V-, 12 4IN+, 13 4IN-, 14 4OUT

## TL431
designator T?, comment REF
TL431; Manuf_1: everlight; Manuf_Part_1: 19-213-R6C-AP1Q2B/3T; ECCN_US/EU: EAR99/NEC; Order: 19-213-R6C-AP1Q2B/3T
footprint TL431 (SOT23, 3 pin)
pins: 1, 2, 3
2 alternate drawings of the same symbol

## TLC071ACP
designator U?, comment OP-AMP
footprint PDIP-8
pins: 1 OFFSET_N1 (io), 2 IN- (in), 3 IN+ (in), 4 VCC- (power), 5 OFFSET_N2 (io), 6 OUT (out), 7 VCC+ (power)

## TLC271CD
designator IC?
Integrated Circuit; Manufacturer_Name: Texas Instruments; Manufacturer_Part_Number: TLC271CD; Datasheet Link: http://www.ti.com/lit/ds/symlink/tlc271.pdf; Height: 1.75mm; Arrow Part Number: TLC271CD; Arrow Price/Stock: https://www.arrow.com/en/products/tlc271cd/texas-instruments; Mouser Part Number: 595-TLC271CD; Mouser Price/Stock: https://www.mouser.co.uk/ProductDetail/Texas-Instruments/TLC271CD?qs=p6YqzpSxLIwNqYFp3MXxxQ%3D%3D
footprint TLC271CD
pins: 1 OFFSET_N1, 2 IN_-, 3 IN_+, 4 GND, 5 OFFSET_N2, 6 OUT, 7 VDD, 8 BIAS_SELECT

## TLRZ1ETTB
designator R?
Zero Ohm Jumper 10 Amp; MF: KOA Speer; Price: None; Package: 0402 KOA Speer; SnapEDA_Link: https://www.snapeda.com/parts/TLRZ1ETTB/KOA%20Speer/view-part/?ref=snap; MP: TLRZ1ETTB; Availability: Unavailable; Value: *
footprint RESC1005X40N
pins: 1, 2

## TM1637
designator U?
LED Drive Control Special Circuit SOP20; MF: Titan Micro Electronics; MP: TM1637_SOP20; SnapEDA_Link: https://www.snapeda.com/parts/TM1637_SOP20/Titan+Micro+Electronics/view-part/?ref=snap; Package: Package; Value: *; Check_prices: https://www.snapeda.com/parts/TM1637_SOP20/Titan+Micro+Electronics/view-part/?ref=eda
footprint TM1637 (SOP20)
pins: 1 GND (power), 2 SEG1/KS1 (out), 3 SEG2/KS2 (out), 4 SEG3/KS3 (out), 5 SEG4/KS4 (out), 6 SEG5/KS5 (out), 7 SEG6/KS6 (out), 8 SEG7/KS7 (out), 9 SEG8/KS8 (out), 10 GRID6 (out), 11 GRID5 (out), 12 GRID4 (out), 13 GRID3 (out), 14 GRID2 (out), 15 GRID1 (out), 16 VDD (power), 17 DIO (io), 18 CLK (in), 19 K1 (in), 20 K2 (in)

## TMP275
designator U?
Temperature Sensor with I2C and SMBus Interface
footprint SOIC8N_L (8-Pin Small Outline Integrated Circuit 1.27 mm Pitch, IPC High Density)
pins: 1 SDA, 2 SCL, 3 ALERT, 4 GND, 5 A2, 6 A1, 7 A0, 8 V+

## touch pad 5mm
designator T?, comment touch pad
footprint Touch pad CIRCULE - 5mm
pins: 1

## touch pad circule 7mm
designator T?, comment touch pad
footprint Touch pad CIRCULE - 7mm
pins: 1

## touch pad circule 10mm
designator T?, comment touch pad
footprint Touch pad CIRCULE 10mm
pins: 1

## touch pad RECT
designator T?
RECTANGULAR TOUCHPAD
footprint Touch pad FILL RECT
pins: 1

## touch pad_B
designator T?, comment touch pad
footprint Touch pad_B
pins: 1 T, 2 G

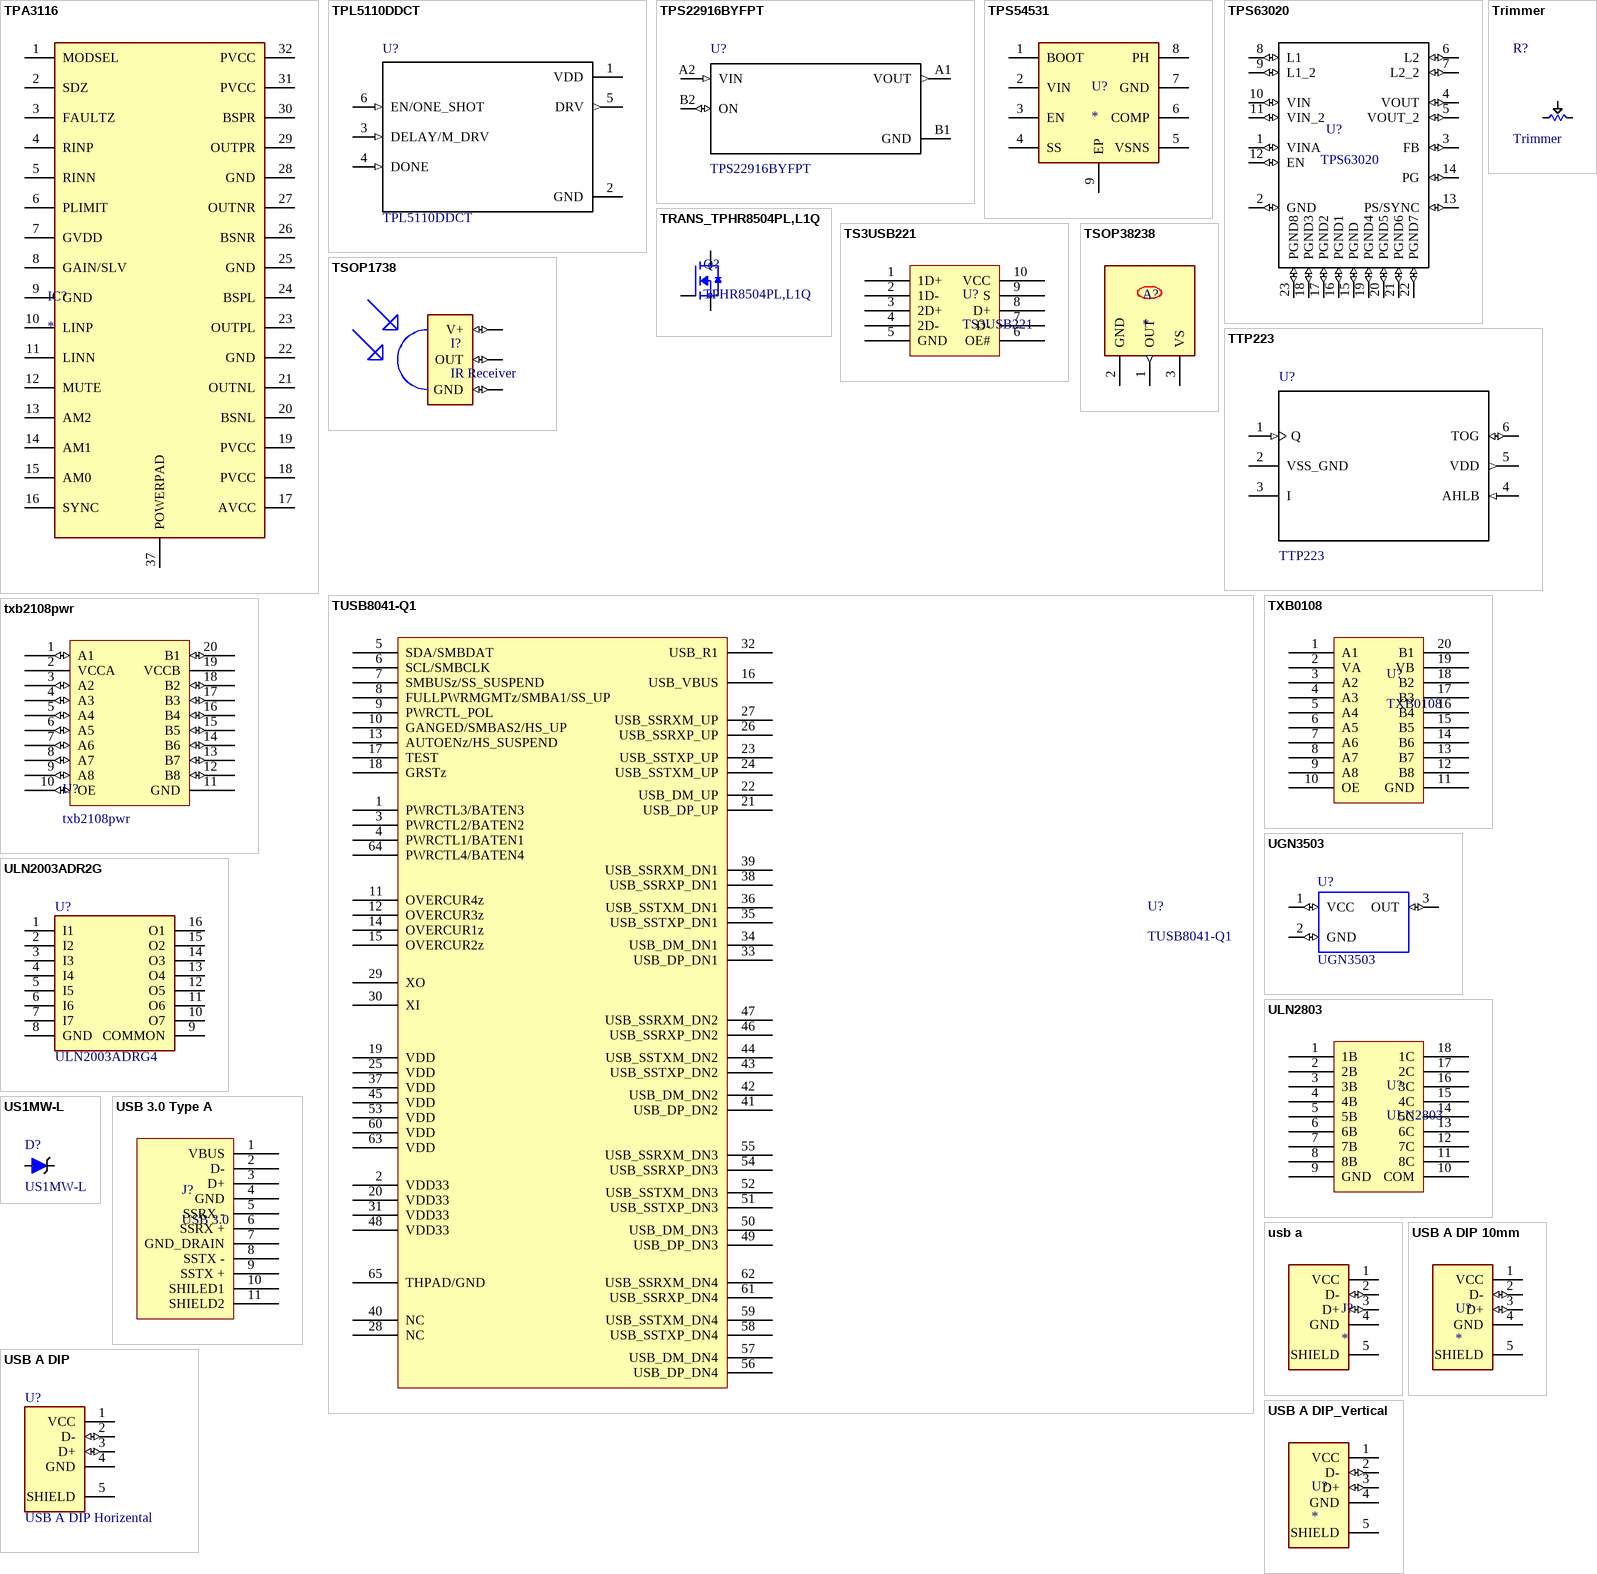
[diagram p17: symbols TPA3116 to USB A DIP_Vertical]

## TPA3116
designator IC?
Integrated Circuit 50w Amplifier; Manufacturer_Name: STMicroelectronics; Manufacturer_Part_Number: TDA7491HV13TR; Datasheet Link: http://www.st.com/web/en/resource/technical/document/datasheet/CD00178777.pdf; Height: 2.47mm; Arrow Part Number: TDA7491HV13TR; Arrow Price/Stock: https://www.arrow.com/en/products/tda7491hv13tr/stmicroelectronics; Mouser Part Number: 511-TDA7491HV13TR; Mouser Price/Stock: https://www.mouser.com/Search/Refine.aspx?Keyword=511-TDA7491HV13TR
footprint TPA3116
pins: 1 MODSEL, 2 SDZ, 3 FAULTZ, 4 RINP, 5 RINN, 6 PLIMIT, 7 GVDD, 8 GAIN/SLV, 9 GND, 10 LINP, 11 LINN, 12 MUTE, 13 AM2, 14 AM1, 15 AM0, 16 SYNC, 17 AVCC, 18 PVCC, 19 PVCC, 20 BSNL, 21 OUTNL, 22 GND, 23 OUTPL, 24 BSPL, 25 GND, 26 BSNR, 27 OUTNR, 28 GND, 29 OUTPR, 30 BSPR, 31 PVCC, 32 PVCC, 37 POWERPAD

## TPL5110DDCT
designator U?
Ultra Low Power Timer with MOS driver and MOSFET Power ON 6-SOT -40 to 105; MF: Texas Instruments; Package: TSOT-23 Texas Instruments; Digi-Key_Part_Number: 296-38830-1-ND; SnapEDA_Link: https://www.snapeda.com/parts/TPL5110DDCT/Texas%20Instruments/view-part/?ref=snap; Digi-Key_Purchase_URL: https://www.digikey.com/product-detail/en/texas-instruments/TPL5110DDCT/296-38830-1-ND/5130150?utm_source=snapeda&utm_medium=aggregator&utm_campaign=symbol; MP: TPL5110DDCT; Value: *
footprint *SOT95P280X110-6N
pins: 1 VDD (power), 2 GND (power), 3 DELAY/M_DRV (in), 4 DONE (in), 5 DRV (out), 6 EN/ONE_SHOT (in)

## TPS22916BYFPT
designator U?
TPS22916 5.5-V, 2-A Ultra-Low Leakage Load Switch 4-DSBGA -40 to 85; MF: Texas Instruments; Availability: Unavailable; Package: DSBGA-4 Texas Instruments; Price: None; SnapEDA_Link: https://www.snapeda.com/parts/TPS22916BYFPT/Texas%20Instruments/view-part/?ref=snap; MP: TPS22916BYFPT; Value: *
footprint *BGA4C40P2X2_77X77X50_TPS22916BYFPT(Primary)
pins: A1 VOUT (out), A2 VIN (in), B1 GND (power), B2 ON (io)

## TPS54531
designator U?
TPS54531 5-A, 28-V Input, SWIFT™ Step-Down Converter With Eco-mode
pins: 1 BOOT, 2 VIN, 3 EN, 4 SS, 5 VSNS, 6 COMP, 7 GND, 8 PH, 9 EP

## TPS63020
designator U?
High Efficiency Single Inductor Buck-Boost Converter with 4A Switch; MF: Texas Instruments; Package: VSON-14 Texas Instruments; MP: TPS63020; SnapEDA_Link: https://www.snapeda.com/parts/TPS63020/Texas%20Instruments/view-part/?ref=snap; Availability: Unavailable; Price: None; Value: *
footprint TPS63020
pins: 1 VINA (io), 2 GND (io), 3 FB (io), 4 VOUT (io), 5 VOUT_2 (io), 6 L2 (io), 7 L2_2 (io), 8 L1 (io), 9 L1_2 (io), 10 VIN (io), 11 VIN_2 (io), 12 EN (io), 13 PS/SYNC (io), 14 PG (io), 15 PGND (io), 16 PGND1 (io), 17 PGND2 (io), 18 PGND3 (io), 19 PGND4 (io), 20 PGND5 (io), 21 PGND6 (io), 22 PGND7 (io), 23 PGND8 (io)

## TRANS_TPHR8504PL,L1Q
designator Q?, comment TPHR8504PL,L1Q
N-Channel 40V 150A (Tc) 1W (Ta), 170W (Tc) Surface Mount 8-SOP Advance (5x5); MF: Toshiba Semiconductor; Package: SOP-8 Toshiba; Price: None; Value: *; MP: TPHR8504PL,L1Q; SnapEDA_Link: https://www.snapeda.com/parts/TPHR8504PL,L1Q/Toshiba%20Semiconductor%20and%20Storage/view-part/604439/?ref=snap; Availability: Unavailable
footprint TRANS_TPHR8504PL,L1Q
pins: 1 S, 2 S, 3 S, 4 G, 5 D, 6 D, 7 D, 8 D, 9 D

## Trimmer
designator R?
Res Cermet Trimmer Multi turn 3026; MF: Bourns; MP: 3224W-1-102E; Price: None; SnapEDA_Link: https://www.snapeda.com/parts/3224W-1-102E/Bourns/view-part/?ref=snap; Availability: Unavailable; Package: Bourns; Value: *
footprint Trimmer
pins: 1, 2, 3

## TS3USB221
designator U?
USB Multiplex
footprint TS3USB221 (USB multiplex)
pins: 1 1D+, 2 1D-, 3 2D+, 4 2D-, 5 GND, 6 OE#, 7 D-, 8 D+, 9 S, 10 VCC

## TSOP1738
designator I?, comment IR Receiver
IR Remote Receiver 38KHz 35m 3-Pin; MP: TSOP1738.; MF: Vishay; Check_prices: https://www.snapeda.com/parts/TSOP1738./Vishay/view-part/?ref=eda; Value: *; Availability: Not in stock; Price: None; Package: DIP-3 Vishay; SnapEDA_Link: https://www.snapeda.com/parts/TSOP1738./Vishay/view-part/?ref=snap
footprint TSOP17XX (IR Receiver Dip)
footprint TSOP17XX Right (IR Receiver Dip)
footprint TSOP17XX Vertical (IR Receiver Dip)
pins: GND (io), OUT (io), V+ (io)

## TSOP38238
designator A?
Remote Receiver Sensor, 38.0kHz 45m; MP: TSOP38238; MF: Vishay; Package: None; DigiKey-Purchase-URL: https://snapeda.com/shop?store=DigiKey&id=45262; Price: None; Availability: Good; Value: *; Mouser-Purchase-URL: https://snapeda.com/shop?store=Mouser&id=45262; SnapEDA_Link: https://www.snapeda.com/parts/TSOP38238/Vishay%20Semiconductor%20Opto%20Division/view-part/45262/?ref=snap
footprint TSOP38238
pins: 1 OUT (out), 2 GND (power), 3 VS (power)

## TTP223
designator U?
capacitance touch sensor; MP: ADG719BRTZ-500RL7; MF: Analog Devices; Package: SOT-23-6 Analog Devices; Availability: Unavailable; Price: None; SnapEDA_Link: https://www.snapeda.com/parts/ADG719BRTZ-500RL7/Analog%20Devices%20Inc./view-part/?ref=snap; Value: *
footprint TTP223
pins: 1 Q (in), 2 VSS_GND (power), 3 I (power), 4 AHLB (in), 5 VDD (out), 6 TOG (io)

## TUSB8041-Q1
designator U?
Four-Port USB 3.0 Hub
footprint PM064_N (64-Pin Thin Quad Flat Pack 0.5 mm Pitch, IPC Medium Density)
pins: 1 PWRCTL3/BATEN3, 2 VDD33, 3 PWRCTL2/BATEN2, 4 PWRCTL1/BATEN1, 5 SDA/SMBDAT, 6 SCL/SMBCLK, 7 SMBUSz/SS_SUSPEND, 8 FULLPWRMGMTz/SMBA1/SS_UP, 9 PWRCTL_POL, 10 GANGED/SMBAS2/HS_UP, 11 OVERCUR4z, 12 OVERCUR3z, 13 AUTOENz/HS_SUSPEND, 14 OVERCUR1z, 15 OVERCUR2z, 16 USB_VBUS, 17 TEST , 18 GRSTz, 19 VDD, 20 VDD33, 21 USB_DP_UP, 22 USB_DM_UP, 23 USB_SSTXP_UP, 24 USB_SSTXM_UP, 25 VDD, 26 USB_SSRXP_UP, 27 USB_SSRXM_UP, 28 NC, 29 XO, 30 XI, 31 VDD33, 32 USB_R1, 33 USB_DP_DN1, 34 USB_DM_DN1, 35 USB_SSTXP_DN1, 36 USB_SSTXM_DN1, 37 VDD, 38 USB_SSRXP_DN1, 39 USB_SSRXM_DN1, 40 NC, 41 USB_DP_DN2, 42 USB_DM_DN2, 43 USB_SSTXP_DN2, 44 USB_SSTXM_DN2, 45 VDD, 46 USB_SSRXP_DN2, 47 USB_SSRXM_DN2, 48 VDD33, 49 USB_DP_DN3, 50 USB_DM_DN3, 51 USB_SSTXP_DN3, 52 USB_SSTXM_DN3, 53 VDD, 54 USB_SSRXP_DN3, 55 USB_SSRXM_DN3, 56 USB_DP_DN4, 57 USB_DM_DN4, 58 USB_SSTXP_DN4, 59 USB_SSTXM_DN4, 60 VDD, 61 USB_SSRXP_DN4, 62 USB_SSRXM_DN4, 63 VDD, 64 PWRCTL4/BATEN4, 65 THPAD/GND

## TXB0108
designator U?
8-Bit Bidirectional Voltage-Level Translator
footprint txb0108
pins: 1 A1, 2 VA, 3 A2, 4 A3, 5 A4, 6 A5, 7 A6, 8 A7, 9 A8, 10 OE, 11 GND, 12 B8, 13 B7, 14 B6, 15 B5, 16 B4, 17 B3, 18 B2, 19 VB, 20 B1

## txb2108pwr
designator U?
footprint txb2108pwr
pins: 1 A1 (io), 2 VCCA (power), 3 A2 (io), 4 A3 (io), 5 A4 (io), 6 A5 (io), 7 A6 (io), 8 A7 (io), 9 A8 (io), 10 OE (io), 11 GND (power), 12 B8 (io), 13 B7 (io), 14 B6 (io), 15 B5 (io), 16 B4 (io), 17 B3 (io), 18 B2 (io), 19 VCCB (power), 20 B1 (io)

## UGN3503
designator U?
dip Hall sensor
footprint UGN3503UA (TO-92)
pins: 1 VCC (io), 2 GND (io), 3 OUT (io)

## ULN2003ADR2G
designator U?, comment ULN2003ADRG4
High-Voltage, High-Current Darlington Transistor Arrays 16-SOIC; Manufacturer_Name: ON Semiconductor; Manufacturer_Part_Number: ULN2003ADR2G; Datasheet Link: http://www.onsemi.com/pub/Collateral/ULN2003A-D.PDF; Height: 1.75mm; Mouser Part Number: 863-ULN2003ADR2G; Mouser Price/Stock: https://www.mouser.com/Search/Refine.aspx?Keyword=863-ULN2003ADR2G; RS Part Number: 1868994; RS Price/Stock: http://uk.rs-online.com/web/p/products/1868994
footprint ULN2003 (SOIC127P600X175-16N)
pins: 1 I1, 2 I2, 3 I3, 4 I4, 5 I5, 6 I6, 7 I7, 8 GND, 9 COMMON, 10 O7, 11 O6, 12 O5, 13 O4, 14 O3, 15 O2, 16 O1

## ULN2803
designator U?
Darlington Transistor Arrays
footprint SOIC 18 (16-Pin Small Outline Integrated Circuit 1.27 mm Pitch, IPC Low Density)
pins: 1 1B, 2 2B, 3 3B, 4 4B, 5 5B, 6 6B, 7 7B, 8 8B, 9 GND, 10 COM, 11 8C, 12 7C, 13 6C, 14 5C, 15 4C, 16 3C, 17 2C, 18 1C

## US1MW-L
designator D?
SOD-123 Package; MP: EDZV12B; MF: ROHM Semiconductor; Price: None; Package: None; SnapEDA_Link: https://www.snapeda.com/parts/EDZV12B/EMI/view-part/4479349/?ref=snap; Availability: Unavailable; Value: *
footprint US1MW-L (SOD-123)
pins: 1 A, 2 C

## USB 3.0 Type A
designator J?, comment USB 3.0
USB 3.0 Type A Feamle
footprint USB 3.0 (Type A female)
pins: 1 VBUS, 2 D-, 3 D+, 4 GND, 5 SSRX -, 6 SSRX +, 7 GND_DRAIN, 8 SSTX -, 9 SSTX +, 10 SHILED1, 11 SHIELD2

## usb a
designator J?
UJ2-AV-1-SMT usb a vertical; MF: {'manufacturer': u'CUI Devices'}; Package: None; Value: *; Availability: Unavailable; MP: UJ2-AV-1-SMT; Price: None
footprint usb a vertical
pins: 1 VCC (power), 2 D- (io), 3 D+ (io), 4 GND (power), 5 SHIELD

## USB A DIP
designator U?, comment USB A DIP Horizental
Type A, USB 2.0, 1 A, Horizental, Through Hole, USB Receptacle; MP: UJ2-AV-1-TH; MF: CUI Devices; Value: *; SnapEDA_Link: https://www.snapeda.com/parts/UJ2-AV-1-TH/CUI%20Devices/view-part/698263/?ref=snap; Availability: Unavailable; Package: None; Price: None; CUI_purchase_URL: https://www.cuidevices.com/product/interconnect/connectors/usb-connectors/uj2-av-th-series?utm_source=snapeda.com&utm_medium=referral&utm_campaign=snapedaBOM
footprint USB_A_DIP
pins: 1 VCC (power), 2 D- (io), 3 D+ (io), 4 GND (power), 5 SHIELD

## USB A DIP 10mm
designator U?
Type A, USB 2.0, 1 A, Vertical, Through Hole, USB Receptacle; MP: UJ2-AV-1-TH; MF: CUI Devices; Value: *; SnapEDA_Link: https://www.snapeda.com/parts/UJ2-AV-1-TH/CUI%20Devices/view-part/698263/?ref=snap; Availability: Unavailable; Package: None; Price: None; CUI_purchase_URL: https://www.cuidevices.com/product/interconnect/connectors/usb-connectors/uj2-av-th-series?utm_source=snapeda.com&utm_medium=referral&utm_campaign=snapedaBOM
footprint USB A DIP 10mm
pins: 1 VCC (power), 2 D- (io), 3 D+ (io), 4 GND (power), 5 SHIELD

## USB A DIP_Vertical
designator U?
Type A, USB 2.0, 1 A, Vertical, Through Hole, USB Receptacle; MP: UJ2-AV-1-TH; MF: CUI Devices; Value: *; SnapEDA_Link: https://www.snapeda.com/parts/UJ2-AV-1-TH/CUI%20Devices/view-part/698263/?ref=snap; Availability: Unavailable; Package: None; Price: None; CUI_purchase_URL: https://www.cuidevices.com/product/interconnect/connectors/usb-connectors/uj2-av-th-series?utm_source=snapeda.com&utm_medium=referral&utm_campaign=snapedaBOM
footprint USB A vertical - DIP
pins: 1 VCC (power), 2 D- (io), 3 D+ (io), 4 GND (power), 5 SHIELD

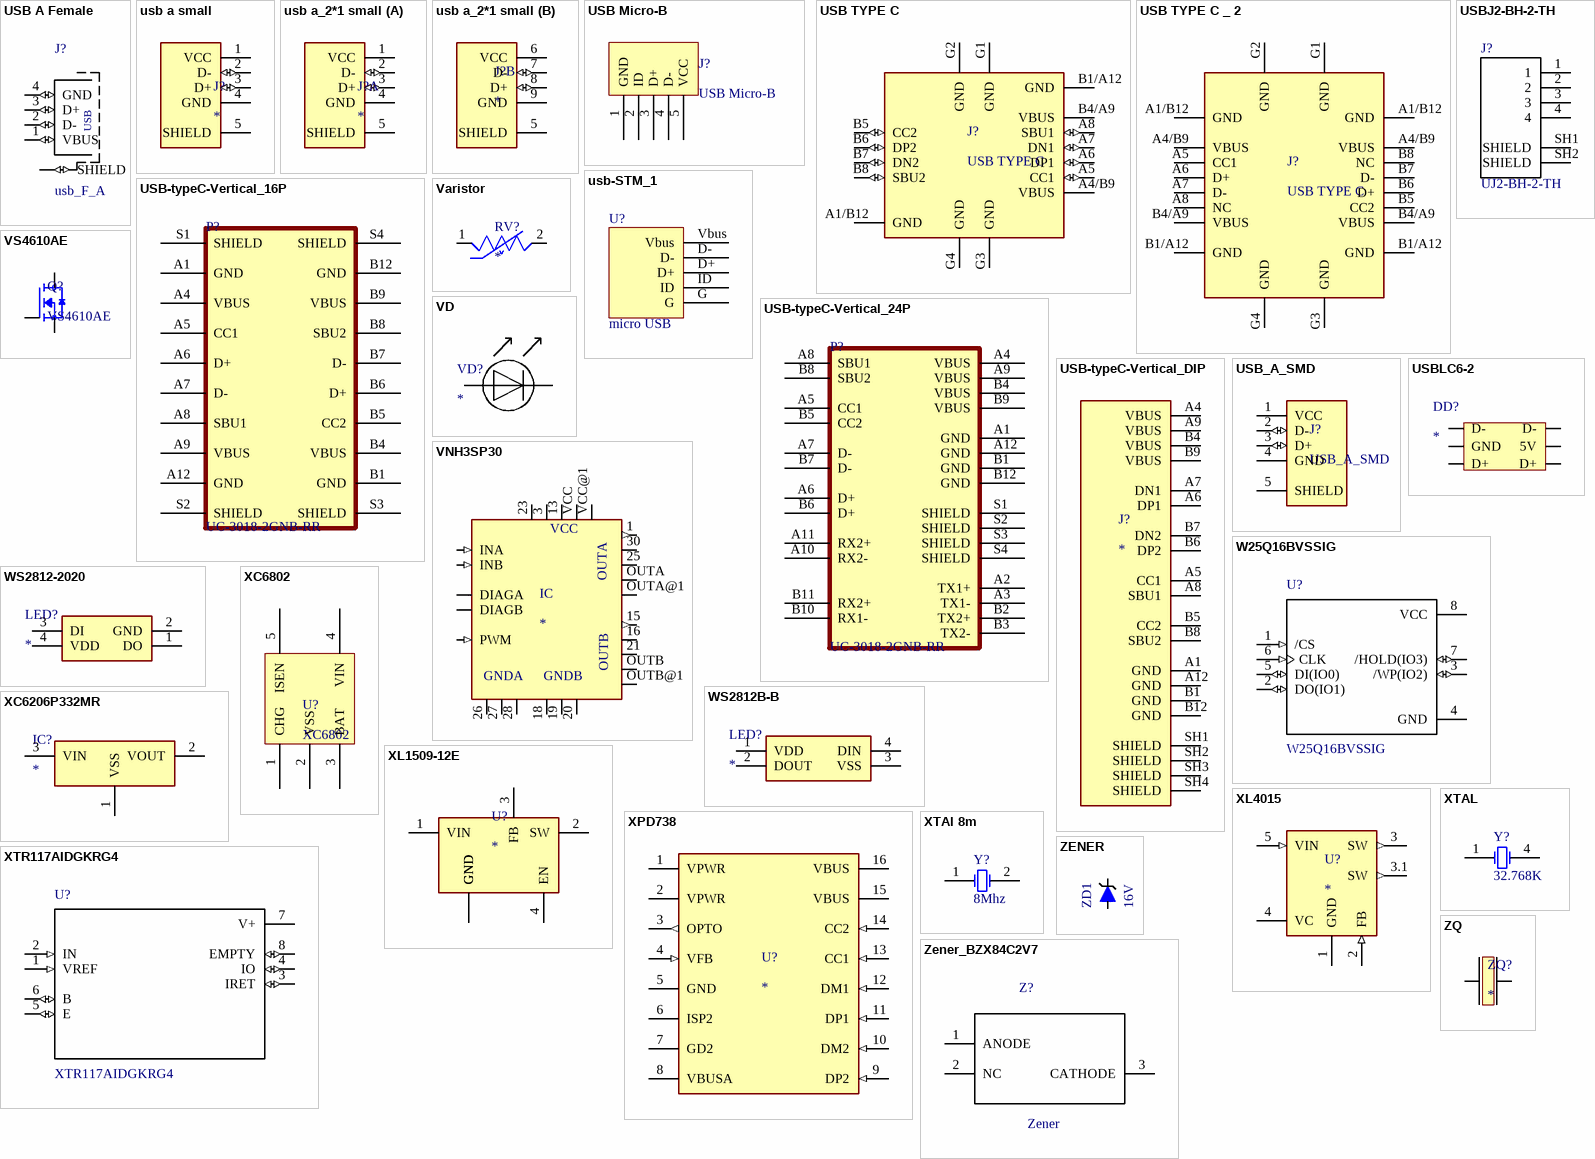
[diagram p18: symbols USB A Female to ZQ]

## USB A Female
designator J?, comment usb_F_A
WR-COM Series, Right Angle Type A USB Connector Socket, 30 V ac, 1.5A; MP: 61400416021; MF: Wurth Electronics; Availability: Unavailable; Package: None; SnapEDA_Link: https://www.snapeda.com/parts/61400416021/Wurth%20Electronics%20Inc./view-part/?ref=snap; Price: None; Value: *
footprint USB_A_SMD
pins: 1 VBUS (io), 2 D- (io), 3 D+ (io), 4 GND (io), 5 SHIELD (io), 5 SHIELD (io)
text: USB

## usb a small
designator J?
UJ2-AV-1-SMT usb a vertical  small; MF: {'manufacturer': u'CUI Devices'}; Package: None; Value: *; Availability: Unavailable; MP: UJ2-AV-1-SMT; Price: None
footprint USB SMALL
pins: 1 VCC (power), 2 D- (io), 3 D+ (io), 4 GND (power), 5 SHIELD

## usb a_2*1 small
designator J?
UJ2-AV-1-SMT usb a vertical 2*1 small; MF: {'manufacturer': u'CUI Devices'}; Package: None; Value: *; Availability: Unavailable; MP: UJ2-AV-1-SMT; Price: None
footprint USB SMALL 2*1
part A pins: 1 VCC (power), 2 D- (io), 3 D+ (io), 4 GND (power), 5 SHIELD
part B pins: 5 SHIELD, 6 VCC (power), 7 D- (io), 8 D+ (io), 9 GND (power)

## USB Micro-B
designator J?
footprint USB Micro - B
pins: 1 GND, 2 ID, 3 D+, 4 D-, 5 VCC

## USB TYPE C
designator J?
USB-C _USB TYPE-C_ USB 2.0 Receptacle Connector 24 _16+8 Dummy_ Position Surface Mount, Right Angle; Through Hole  USB4105_REVA; MF: Global Connector Technology; SnapEDA_Link: https://www.snapeda.com/parts/USB4105/Global%20Connector%20Technology/view-part/4223080/?ref=snap; Value: *; Price: None; Availability: Unavailable; MP: USB4105; Package: Package Analog Devices
footprint USB-C
pins: A1/B12 GND (power), A4/B9 VBUS (power), A5 CC1 (io), A6 DP1 (io), A7 DN1 (io), A8 SBU1 (io), B1/A12 GND (power), B4/A9 VBUS (power), B5 CC2 (io), B6 DP2 (io), B7 DN2 (io), B8 SBU2 (io), G1 GND (power), G2 GND (power), G3 GND (power), G4 GND (power)

## USB TYPE C _ 2
designator J?, comment USB TYPE C
USB-C _USB TYPE-C_ USB 2.0 Receptacle Connector 24 _16+8 Dummy_ Position Surface Mount, Right Angle; Through Hole  USB4105_REVA; MF: Global Connector Technology; SnapEDA_Link: https://www.snapeda.com/parts/USB4105/Global%20Connector%20Technology/view-part/4223080/?ref=snap; Value: *; Price: None; Availability: Unavailable; MP: USB4105; Package: Package Analog Devices
footprint USB-C
pins: A1/B12 GND (power), A1/B12 GND (power), A4/B9 VBUS (power), A4/B9 VBUS (power), A5 CC1, A6 D+, A7 D-, A8 NC, B1/A12 GND (power), B1/A12 GND (power), B4/A9 VBUS (power), B4/A9 VBUS (power), B5 CC2, B6 D+, B7 D-, B8 NC, G1 GND (power), G2 GND (power), G3 GND (power), G4 GND (power)

## usb-STM_1
designator U?, comment micro USB
footprint Micro_USB_v2 - duplicate
pins: D+, D-, G, ID, Vbus

## USB-typeC-Vertical_16P
designator P?, comment UC-3018-2GNB-RR
Type-C
footprint USB-typeC-Vertical-16P
pins: A1 GND (power), A4 VBUS, A5 CC1, A6 D+, A7 D-, A8 SBU1, A9 VBUS, A12 GND (power), B1 GND, B4 VBUS, B5 CC2, B6 D+, B7 D-, B8 SBU2, B9 VBUS, B12 GND, S1 SHIELD, S2 SHIELD, S3 SHIELD, S4 SHIELD

## USB-typeC-Vertical_24P
designator P?, comment UC-3018-2GNB-RR
Type-C
footprint USB-typeC-Vertical-24P
pins: A1 GND (power), A2 TX1+, A3 TX1-, A4 VBUS, A5 CC1, A6 D+, A7 D-, A8 SBU1, A9 VBUS, A10 RX2-, A11 RX2+, A12 GND (power), B1 GND, B2 TX2+, B3 TX2-, B4 VBUS, B5 CC2, B6 D+, B7 D-, B8 SBU2, B9 VBUS, B10 RX1-, B11 RX2+, B12 GND, S1 SHIELD, S2 SHIELD, S3 SHIELD, S4 SHIELD

## USB-typeC-Vertical_DIP
designator J?
CUI_UJ20-C-V-C-2-SMT-TR; Package: None; Price: None; Value: *; MP: UJ20-C-V-C-2-SMT-TR; Availability: Unavailable
footprint USB-typeC-Vertical_DIP (CUI_UJ20-C-V-C-2-SMT-TR)
pins: A1 GND, A4 VBUS, A5 CC1, A6 DP1, A7 DN1, A8 SBU1, A9 VBUS, A12 GND, B1 GND, B4 VBUS, B5 CC2, B6 DP2, B7 DN2, B8 SBU2, B9 VBUS, B12 GND, SH1 SHIELD, SH2 SHIELD, SH3 SHIELD, SH4 SHIELD

## USB_A_SMD
designator J?
USB-A (USB TYPE-A) USB 2.0 Receptacle Connector 4 Position Surface Mount, Right Angle; MP: USB-A-S-F-B-SM2; MF: Samtec; SnapEDA_Link: https://www.snapeda.com/parts/USB-A-S-F-B-SM2/Samtec%20Inc./view-part/937545/?ref=snap; Value: *; Availability: Unavailable; DigiKey-Purchase-URL: https://snapeda.com/shop?store=DigiKey&id=937545; Package: None; Toby_UK-Purchase-URL: https://snapeda.com/shop?store=Toby+UK&id=937545; Price: None
footprint USB_A_SMD
pins: 1 VCC (power), 2 D- (io), 3 D+ (io), 4 GND (power), 5 SHIELD

## USBJ2-BH-2-TH
designator J?, comment UJ2-BH-2-TH
USB jack 2.0, standard B type, 4 pin, horizontal, 6 Âµin plating, through hole; MF: CUI Inc.; Availability: Unavailable; Package: None; SnapEDA_Link: https://www.snapeda.com/parts/UJ2-BH-2-TH/CUI%20Inc./view-part/?ref=snap; MP: UJ2-BH-2-TH; Price: None; CUI_purchase_URL: https://www.cui.com/product/interconnect/usb-connectors/type-b/uj2-bh-th-series?utm_source=snapeda.com&utm_medium=referral&utm_campaign=snapedaBOM; Value: *
footprint Usb B
pins: 1, 2, 3, 4, SH1 SHIELD, SH2 SHIELD

## USBLC6-2
designator DD?
footprint SOT-23-6
pins: 1 D-, 2 GND, 3 D+, 4 D+, 5 5V, 6 D-

## Varistor
designator RV?
470 V 8 kA Varistor 1 Circuit Through Hole Disc 8mm; MP: B72220S0301K101; MF: TDK; Purchase-URL: https://pricing.snapeda.com/search/part/B72220S0301K101/?ref=eda; Package: None; SnapEDA_Link: https://www.snapeda.com/parts/B72220S0301K101/TDK/view-part/?ref=snap; Price: None; Availability: In Stock; Value: *; Check_prices: https://www.snapeda.com/parts/B72220S0301K101/TDK/view-part/?ref=eda
footprint VAR_B72220S0301K101
pins: 1, 2

## VD
designator VD?
footprint 0805
pins: 1, 2

## VNH3SP30
designator IC
Motor Driver Power MOSFET Parallel, PWM MultiPowerSO-30; MF: STMicroelectronics; MP: VNH3SP30; SnapEDA_Link: https://www.snapeda.com/parts/VNH3SP30/STMicroelectronics/view-part/42627/?ref=snap; Value: *; Price: None; Availability: Unavailable; Package: 0-3 STMicroelectronics
footprint VNH3SP30 (Motor Driver Power MOSFET Parallel, PWM MultiPowerSO-30)
pins: 1 OUTA (out), 3 VCC (power), 5 INA (in), 6 DIAGA (oc), 8 PWM (in), 10 DIAGB (oc), 11 INB (in), 13 VCC@1 (power), 15 OUTB (out), 16 OUTB@1, 18 GNDB (power), 19 GNDB@1 (power), 20 GNDB@2 (power), 21 OUTB@2, 23 VCC@2 (power), 25 OUTA@2, 26 GNDA@2 (power), 27 GNDA@1 (power), 28 GNDA (power), 30 OUTA@1, OUTA OUTA@3, OUTA@1 OUTA@4, OUTB OUTB@3, OUTB@1 OUTB@4, VCC VCC@3 (power), VCC@1 VCC@4 (power)

## VS4610AE
designator Q?
N-Channel 40V 3*3; MF: Toshiba Semiconductor; MP: TPHR8504PL,L1Q; Package: SOP-8 Toshiba; Price: None; Value: *; SnapEDA_Link: https://www.snapeda.com/parts/TPHR8504PL,L1Q/Toshiba%20Semiconductor%20and%20Storage/view-part/604439/?ref=snap; Availability: Unavailable
footprint VS4610AE (DFN_3*3)
pins: 1 S, 4 G, 5 D

## W25Q16BVSSIG
designator U?
FLASH - NOR Memory IC 16Mb _2M x 8_ SPI 104MHz 8-SOIC; MF: Winbond; SnapEDA_Link: https://www.snapeda.com/parts/W25Q16BVSSIG/Winbond%20Electronics/view-part/512685/?ref=snap; Price: None; MP: W25Q16BVSSIG; Availability: Unavailable; Package: SOIC-8 Winbond; Value: *
footprint W25Q16
pins: 1 /CS (in), 2 DO(IO1) (io), 3 /WP(IO2) (io), 4 GND (power), 5 DI(IO0) (io), 6 CLK (in), 7 /HOLD(IO3) (io), 8 VCC (power)

## WS2812-2020
designator LED?
LED; Manufacturer_Name: Worldsemi; Manufacturer_Part_Number: WS2812-2020; Datasheet Link: http://www.world-semi.com/DownLoadFile/140; Height: 0.84mm
footprint WS28122020
pins: 1 DO, 2 GND, 3 DI, 4 VDD

## WS2812B-B
designator LED?
LED; Manufacturer_Name: Worldsemi; Manufacturer_Part_Number: WS2812B-B; Datasheet Link: http://www.world-semi.com/DownLoadFile/111; Height: 1.62mm
footprint WS2812BB
pins: 1 VDD, 2 DOUT, 3 VSS, 4 DIN

## XC6206P332MR
designator IC?
Integrated Circuit; Manufacturer_Name: Torex; Manufacturer_Part_Number: XC6206P332MR; Datasheet Link: http://www.torexsemi.com/products/voltage_regulators/data/XC6206.pdf; Height: 1.3mm
footprint XC6206P332MR
pins: 1 VSS, 2 VOUT, 3 VIN

## XC6802
designator U?
Single cell li-ion charger
footprint SOT-25
pins: 1 CHG, 2 VSS, 3 BAT, 4 VIN, 5 ISEN

## XL1509-12E
designator U?
Regulator SOP-8; Manufacturer_Name: Fitipower; Manufacturer_Part_Number: FR9886SOGTR; Datasheet Link: https://www.insidegadgets.com/wp-content/uploads/2015/03/FR9886.pdf; Height: 1.75mm
footprint FR9886
pins: 1 VIN, 2 SW, 3 FB, 4 EN, 5 GND, 6 GND, 7 GND, 8 GND

## XL4015
designator U?
5A 180KHz 36V Buck DC to DC Converter; MF: XLSEMI; MP: XL4015; Value: *; Availability: Unavailable; Price: None; SnapEDA_Link: https://www.snapeda.com/parts/XL4015/XLSEMI/view-part/4725363/?ref=snap; Package: Package
footprint XL4015
pins: 1 GND (power), 2 FB (in), 3 SW (out), 3.1 SW (out), 4 VC, 5 VIN (in)

## XPD738
designator U?
USB Type-C PD & Type-A; MF: Texas Instruments; MP: TPS61031PWP; SnapEDA_Link: https://www.snapeda.com/parts/TPS61031PWP/Texas+Instruments/view-part/?ref=snap; Package: HTSSOP-16 Texas Instruments; Value: *; Check_prices: https://www.snapeda.com/parts/TPS61031PWP/Texas+Instruments/view-part/?ref=eda
footprint XPD738 (TSSOP-16)
pins: 1 VPWR (power), 2 VPWR (power), 3 OPTO (out), 4 VFB (in), 5 GND (power), 6 ISP2 (power), 7 GD2 (power), 8 VBUSA (power), 9 DP2 (in), 10 DM2 (in), 11 DP1 (in), 12 DM1 (in), 13 CC1 (in), 14 CC2 (in), 15 VBUS (power), 16 VBUS (power)

## XTAL
designator Y?, comment 32.768K
Crystal Oscillator; Published: 8-Jun-2000; LatestRevisionDate: 17-Jul-2002; LatestRevisionNote: Re-released for DXP Platform.; Publisher: Altium Limited
simulation model XTAL (Spice Subcircuit)
footprint MC-306
pins: 1 OSC1, 4 OSC2

## XTAl 8m
designator Y?, comment 8Mhz
Crystal Oscillator; Published: 8-Jun-2000; LatestRevisionDate: 17-Jul-2002; LatestRevisionNote: Re-released for DXP Platform.; Publisher: Altium Limited
simulation model XTAL (Spice Subcircuit)
footprint XTAL1
footprint XTAL1 (Primary)
pins: 1 OSC1, 2 OSC2

## XTR117AIDGKRG4
designator U?
Sensors, Sensor Conditioning, 4-20mA Transmitters XTR117 4-20mA Crnt Loop Transmitter; MF: Texas Instruments; SnapEDA_Link: https://www.snapeda.com/parts/XTR117AIDGKRG4/Texas%20Instruments/view-part/?ref=snap; Availability: Unavailable; MP: XTR117AIDGKRG4; Price: 1.14 USD; Package: MSOP-8 Texas Instruments; Value: *
footprint XTR117
pins: 1 VREF (in), 2 IN (in), 3 IRET (io), 4 IO (io), 5 E (io), 6 B (io), 7 V+ (power), 8 EMPTY (io)

## ZENER
designator ZD1, comment 16V
ZENER DIODE; MP: EDZV12B; MF: ROHM Semiconductor; Price: None; Package: None; SnapEDA_Link: https://www.snapeda.com/parts/EDZV12B/EMI/view-part/4479349/?ref=snap; Availability: Unavailable; Value: *
footprint ZENER 1/2W
pins: A, K

## Zener_BZX84C2V7
designator Z?, comment Zener
Diode: Zener; 0.35W; 2.7V; SMD; reel, tape; SOT23; MP: BZX84C2V7; MF: Diodes Inc.; Price: None; Availability: Unavailable; Package: None; SnapEDA_Link: https://www.snapeda.com/parts/BZX84C2V7/Diodes%20Inc./view-part/?ref=snap; Value: *
footprint Zener
pins: 1 ANODE, 2 NC, 3 CATHODE

## ZQ
designator ZQ?
footprint ZQ
pins: 1, 3